# Altium footprint library PcbLib1.PcbLib: 54 footprints (part 3 of 4)
Each footprint in its own frame and in the unit in brackets; x right, y up, seen from the top. Pads: shape width x height; smd on the part's side, far side on the other; paste and mask are expansions set on the pad; w line width, h text height; cw(c..) or ccw(c..) is an arc to the next point about the centre after c.
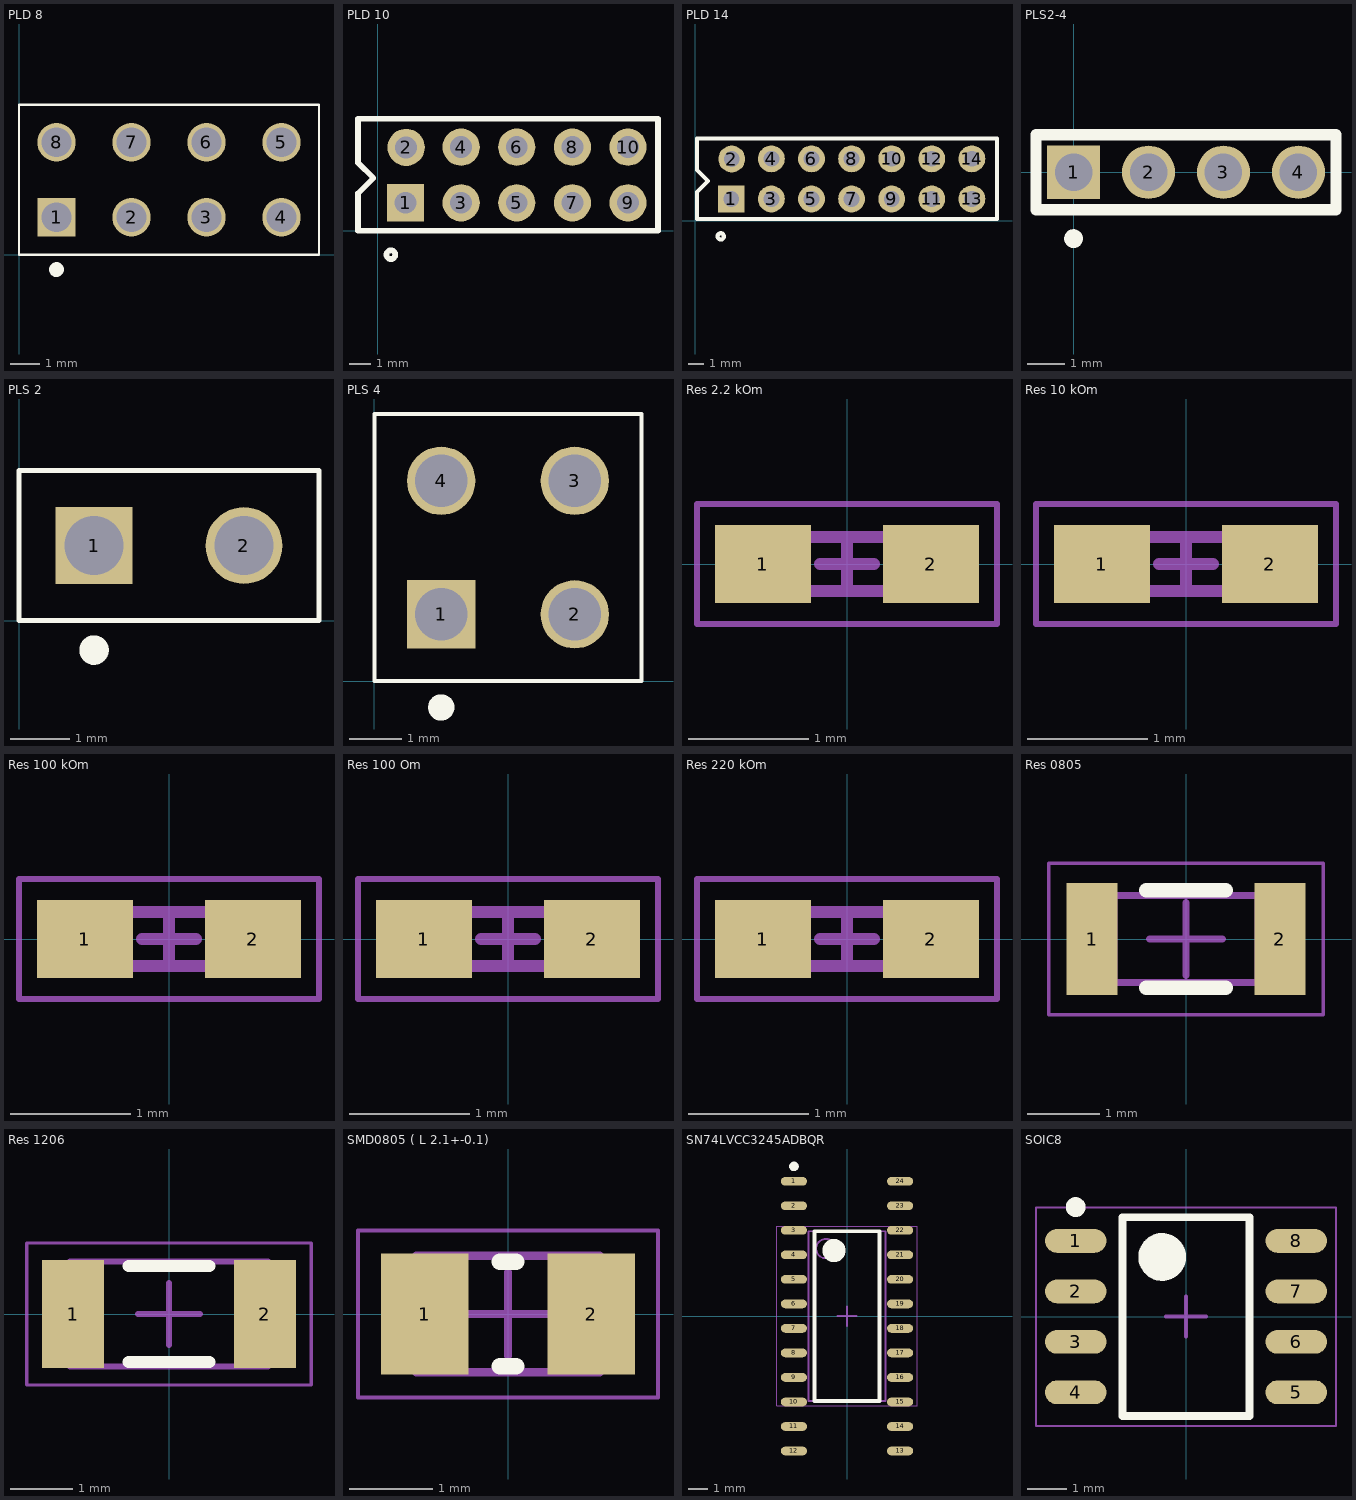
[diagram p2: the footprints below, top view; thin cyan lines are the x and y axes]

## PLD 8 [mm]
pads (8):
  rect 1.3x1.3 hole 1: 1(1.27,1.27)
  round 1.3 hole 1: 2(3.81,1.27) 3(6.35,1.27) 4(8.89,1.27) 5(8.89,3.81) 6(6.35,3.81) 7(3.81,3.81) 8(1.27,3.81)
Top Overlay:
  circle w0.25: c1.27,-0.5 r0.125
  lines w0.08: 0,0 0,5.08 10.16,5.08 10.16,0 0,0

## PLD 10 [mm]
pads (10):
  rect 1.7x1.7 hole 1: 1(1.27,1.27)
  round 1.7 hole 1: 2(1.3,3.8) 3(3.81,1.27) 4(3.81,3.81) 5(6.35,1.27) 6(6.35,3.81) 7(8.89,1.27) 8(8.89,3.81) 9(11.43,1.27) 10(11.43,3.81)
Top Overlay:
  circle w0.254: c0.6,-1.1 r0.2
  lines w0.254: -0.9,3.3 -0.9,3.1 ; -0.9,3.1 -0.2,2.4 -0.9,1.7 -0.9,0 0,0 ; -0.9,3.1 -0.9,5.1 12.8,5.1 12.8,0 7.1,0 0.6,0 0.1,0 0,0 ; 0,0 0,0

## PLD 14 [mm]
pads (14):
  rect 1.7x1.7 hole 1: 1(2.27,1.37)
  round 1.7 hole 1: 2(2.3,3.9) 3(4.81,1.37) 4(4.81,3.91) 5(7.35,1.37) 6(7.35,3.91) 7(9.89,1.37) 8(9.89,3.91) 9(12.43,1.37) 10(12.43,3.91) 11(14.97,1.37) 12(14.97,3.91) 13(17.51,1.37) 14(17.51,3.91)
Top Overlay:
  circle w0.254: c1.6,-1 r0.2
  lines w0.254: 0.1,3.4 0.1,3.2 ; 0.1,3.2 0.8,2.5 0.1,1.8 0.1,0.1 1,0.1 ; 0.1,3.2 0.1,5.2 19.1,5.2 19.1,0.1 8.1,0.1 1.6,0.1 1.1,0.1 1,0.1 ; 1,0.1 1,0.1

## PLS2-4 [mm]
pads (4):
  rect 1.42x1.42 hole 1: 1(0,0)
  round 1.42 hole 1: 2(2,0) 3(4,0) 4(6,0)
Top Overlay:
  circle w0.25: c0,-1.77 r0.125
  lines w0.3: -1,-1 -1,1 7,1 7,-1 -1,-1

## PLS 2 [mm]
pads (2):
  rect 1.3x1.3 hole 1: 1(1.27,1.27)
  round 1.3 hole 1: 2(3.81,1.27)
Top Overlay:
  circle w0.25: c1.27,-0.5 r0.125
  lines w0.08: 0,0 0,2.54 5.08,2.54 5.08,0 0,0
3D body "вилка СНП346-2ВП21-2-В.STEP": height 8.8, standoff -3, extent 0.04,0 5.04,2.54

## PLS 4 [mm]
pads (4):
  rect 1.3x1.3 hole 1: 1(1.27,1.27)
  round 1.3 hole 1: 2(3.81,1.27) 3(3.81,3.81) 4(1.27,3.81)
Top Overlay:
  circle w0.25: c1.27,-0.5 r0.125
  lines w0.08: 0,0 5.08,0 5.08,5.08 0,5.08 0,0

## Res 2.2 kOm [mm]
height 0.4
pads (2):
  rect 0.8x0.65 smd: 1(-0.7,0) 2(0.7,0)
Mechanical 13:
  lines w0.1: -0.45,-0.225 0.45,-0.225 0.45,0.225 -0.45,0.225 -0.45,-0.225
Mechanical 15:
  lines w0.05: -1.25,-0.5 1.25,-0.5 1.25,0.5 -1.25,0.5 -1.25,-0.5
  lines w0.1: -0.225,0 0.225,0 ; 0,-0.225 0,0.225
3D body: height 0.4, standoff 0, extent 0.2,-0.225 0.45,0.225
3D body: height 0.4, standoff 0, extent -0.45,-0.225 -0.2,0.225
3D body: height 0.4, standoff 0, extent -0.2,-0.225 0.2,0.225

## Res 10 kOm [mm]
height 0.4
pads (2):
  rect 0.8x0.65 smd: 1(-0.7,0) 2(0.7,0)
Mechanical 13:
  lines w0.1: -0.45,-0.225 0.45,-0.225 0.45,0.225 -0.45,0.225 -0.45,-0.225
Mechanical 15:
  lines w0.05: -1.25,-0.5 1.25,-0.5 1.25,0.5 -1.25,0.5 -1.25,-0.5
  lines w0.1: -0.225,0 0.225,0 ; 0,-0.225 0,0.225
3D body: height 0.4, standoff 0, extent 0.2,-0.225 0.45,0.225
3D body: height 0.4, standoff 0, extent -0.45,-0.225 -0.2,0.225
3D body: height 0.4, standoff 0, extent -0.2,-0.225 0.2,0.225

## Res 100 kOm [mm]
height 0.4
pads (2):
  rect 0.8x0.65 smd: 1(-0.7,0) 2(0.7,0)
Mechanical 13:
  lines w0.1: -0.45,-0.225 -0.45,0.225 0.45,0.225 0.45,-0.225 -0.45,-0.225
Mechanical 15:
  lines w0.05: -1.25,-0.5 -1.25,0.5 1.25,0.5 1.25,-0.5 -1.25,-0.5
  lines w0.1: -0.225,0 0.225,0 ; 0,-0.225 0,0.225
3D body: height 0.4, standoff 0, extent -0.2,-0.225 0.2,0.225
3D body: height 0.4, standoff 0, extent -0.45,-0.225 -0.2,0.225
3D body: height 0.4, standoff 0, extent 0.2,-0.225 0.45,0.225

## Res 100 Om [mm]
height 0.4
pads (2):
  rect 0.8x0.65 smd: 1(-0.7,0) 2(0.7,0)
Mechanical 13:
  lines w0.1: -0.45,-0.225 -0.45,0.225 0.45,0.225 0.45,-0.225 -0.45,-0.225
Mechanical 15:
  lines w0.05: -1.25,-0.5 -1.25,0.5 1.25,0.5 1.25,-0.5 -1.25,-0.5
  lines w0.1: -0.225,0 0.225,0 ; 0,-0.225 0,0.225
3D body: height 0.4, standoff 0, extent -0.2,-0.225 0.2,0.225
3D body: height 0.4, standoff 0, extent -0.45,-0.225 -0.2,0.225
3D body: height 0.4, standoff 0, extent 0.2,-0.225 0.45,0.225

## Res 220 kOm [mm]
height 0.4
pads (2):
  rect 0.8x0.65 smd: 1(-0.7,0) 2(0.7,0)
Mechanical 13:
  lines w0.1: -0.45,-0.225 -0.45,0.225 0.45,0.225 0.45,-0.225 -0.45,-0.225
Mechanical 15:
  lines w0.05: -1.25,-0.5 -1.25,0.5 1.25,0.5 1.25,-0.5 -1.25,-0.5
  lines w0.1: -0.225,0 0.225,0 ; 0,-0.225 0,0.225
3D body: height 0.4, standoff 0, extent -0.2,-0.225 0.2,0.225
3D body: height 0.4, standoff 0, extent -0.45,-0.225 -0.2,0.225
3D body: height 0.4, standoff 0, extent 0.2,-0.225 0.45,0.225

## Res 0805 [mm]
height 0.5
pads (2):
  rect 0.7x1.55 smd: 1(-1.3,0) 2(1.3,0)
Top Overlay:
  lines w0.2: -0.55,-0.675 0.55,-0.675 ; -0.55,0.675 0.55,0.675
Mechanical 13:
  lines w0.1: -1,-0.6 -1,0.6 1,0.6 1,-0.6 -1,-0.6
Mechanical 15:
  lines w0.05: -1.9,-1.05 -1.9,1.05 1.9,1.05 1.9,-1.05 -1.9,-1.05
  lines w0.1: -0.5,0 0.5,0 ; 0,-0.5 0,0.5
3D body: height 0.5, standoff 0, extent -0.6,-0.6 0.6,0.6
3D body: height 0.5, standoff 0, extent -1,-0.6 -0.6,0.6
3D body: height 0.5, standoff 0, extent 0.6,-0.6 1,0.6

## Res 1206 [mm]
height 0.6
pads (2):
  rect 1x1.75 smd: 1(-1.55,0) 2(1.55,0)
Top Overlay:
  lines w0.2: -0.65,-0.775 0.65,-0.775 ; -0.65,0.775 0.65,0.775
Mechanical 13:
  lines w0.1: -1.6,-0.85 -1.6,0.85 1.6,0.85 1.6,-0.85 -1.6,-0.85
Mechanical 15:
  lines w0.05: -2.3,-1.15 -2.3,1.15 2.3,1.15 2.3,-1.15 -2.3,-1.15
  lines w0.1: -0.5,0 0.5,0 ; 0,-0.5 0,0.5
3D body: height 0.6, standoff 0, extent -1.1,-0.85 1.1,0.85
3D body: height 0.6, standoff 0, extent -1.6,-0.85 -1.1,0.85
3D body: height 0.6, standoff 0, extent 1.1,-0.85 1.6,0.85

## SMD0805 ( L 2.1+-0.1) [mm]
height 0.55
pads (2):
  rect 1.05x1.45 smd: 1(-1,0) 2(1,0)
Top Overlay:
  lines w0.2: -0.1,-0.625 0.1,-0.625 ; -0.1,0.625 0.1,0.625
Mechanical 13:
  lines w0.1: -1.1,-0.7 1.1,-0.7 1.1,0.7 -1.1,0.7 -1.1,-0.7
Mechanical 15:
  lines w0.05: -1.8,-1 1.8,-1 1.8,1 -1.8,1 -1.8,-1
  lines w0.1: -0.5,0 0.5,0 ; 0,-0.5 0,0.5
3D body: height 0.55, standoff 0, extent 0.7,-0.7 1.1,0.7
3D body: height 0.55, standoff 0, extent -1.1,-0.7 -0.7,0.7
3D body: height 0.55, standoff 0, extent -0.7,-0.7 0.7,0.7

## SN74LVCC3245ADBQR [mm]
height 1.75
pads (24):
  oval 1.35x0.45 smd: 1(-2.75,6.985) 2(-2.75,5.715) 3(-2.75,4.445) 4(-2.75,3.175) 5(-2.75,1.905) 6(-2.75,0.635) 7(-2.75,-0.635) 8(-2.75,-1.905) 9(-2.75,-3.175) 10(-2.75,-4.445) 11(-2.75,-5.715) 12(-2.75,-6.985) 13(2.75,-6.985) 14(2.75,-5.715) 15(2.75,-4.445) 16(2.75,-3.175) 17(2.75,-1.905) 18(2.75,-0.635) 19(2.75,0.635) 20(2.75,1.905) 21(2.75,3.175) 22(2.75,4.445) 23(2.75,5.715) 24(2.75,6.985)
Top Overlay:
  circle w0.6: c-0.675,3.4 r0.3
  circle w0.25: c-2.75,7.76 r0.125
  lines w0.2: -1.675,-4.4 1.675,-4.4 1.675,4.4 -1.675,4.4 -1.675,-4.4
Mechanical 13:
  circle w0.1: c-1.1,3.5 r0.5
  lines w0.1: -2,-4.4 2,-4.4 2,4.4 -2,4.4 -2,-4.4
Mechanical 15:
  lines w0.05: -3.65,-4.65 3.65,-4.65 3.65,4.65 -3.65,4.65 -3.65,-4.65
  lines w0.1: -0.5,0 0.5,0 ; 0,-0.5 0,0.5
3D body: height 1.75, standoff 0.25, extent -2,-4.4 2,4.4

## SOIC8 [mm] "SOIC, 8-Leads, Body 5,00x4,00mm, Pitch 1,27mm, IPC Medium Density"
height 2
pads (8):
  oval 1.55x0.6 smd: 1(-2.775,1.905) 2(-2.775,0.635) 3(-2.775,-0.635) 4(-2.775,-1.905) 5(2.775,-1.905) 6(2.775,-0.635) 7(2.775,0.635) 8(2.775,1.905)
Top Overlay:
  circle w0.6: c-0.6,1.5 r0.3
  circle w0.25: c-2.775,2.755 r0.125
  lines w0.2: -1.6,-2.5 1.6,-2.5 1.6,2.5 -1.6,2.5 -1.6,-2.5
Mechanical 15:
  lines w0.05: -3.775,-2.75 3.775,-2.75 3.775,2.75 -3.775,2.75 -3.775,-2.75
  lines w0.1: -0.5,0 0.5,0 ; 0,-0.5 0,0.5